# Altium integrated library LDO.IntLib: 2 symbols
Pins are listed as number, name and electrical type; pins without a type are passive.

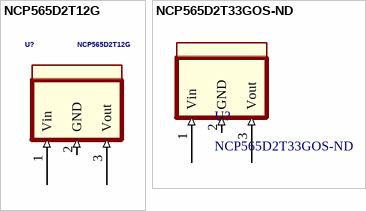
[diagram p0: symbols NCP565D2T12G to NCP565D2T33GOS-ND]

## NCP565D2T12G
designator U?
footprint D2PAK (D2-PAK, 3-Pads, Body 7.60x8.26mm (max), IPC Medium Density)
pins: 1 Vin (in), 2 GND (in), 3 Vout (in)

## NCP565D2T33GOS-ND
designator U?
footprint D2PAK (D2-PAK, 3-Pads, Body 7.60x8.26mm (max), IPC Medium Density)
pins: 1 Vin (in), 2 GND (in), 3 Vout (in)